# Altium footprint library 1718570003.PcbLib: 1 footprints
Each footprint in its own frame and in the unit in brackets; x right, y up, seen from the top. Pads: shape width x height; smd on the part's side, far side on the other; paste and mask are expansions set on the pad; w line width, h text height; cw(c..) or ccw(c..) is an arc to the next point about the centre after c.
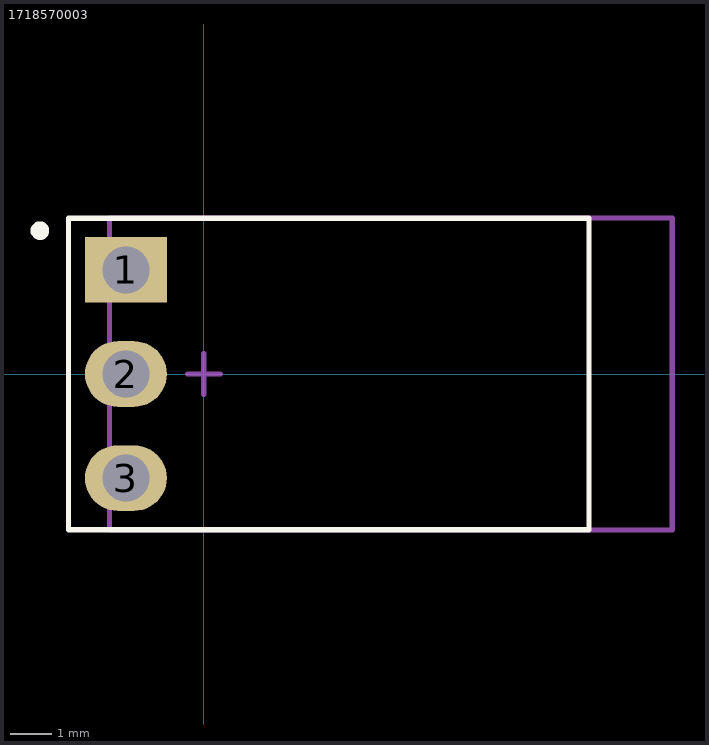
[diagram p0: the footprint, top view; thin cyan lines are the x and y axes]

## 1718570003 [mm]
height 6.2
pads (3):
  rect 2x1.6 hole 1.14: 1(-1.901,2.54)
  oval 2x1.6 hole 1.14: 2(-1.901,0) 3(-1.901,-2.54)
Top Overlay:
  circle w0.254: c-4,3.5 r0.1
  lines w0.127: -3.3,-3.8 -3.3,3.8 -2.3,3.8 9.4,3.8 9.4,-3.8 -2.3,-3.8 -3.3,-3.8
Mechanical 13:
  lines w0.127: -2.3,-3.81 -2.3,3.81 11.43,3.81 11.43,-3.81 -2.3,-3.81
Mechanical 15:
  lines w0.127: -0.4,0 0.4,0 0,0 0,0.5 0,-0.5
3D body "1718570003.stp": height 6.27, standoff -2.62, extent -2.235,-3.734 11.43,3.734